# EAGLE library part NL27WZ125 (library IC)
On-Semi NL27WZ125 Dual Tri-State Buffer,, 1.65V - 5.5V operation
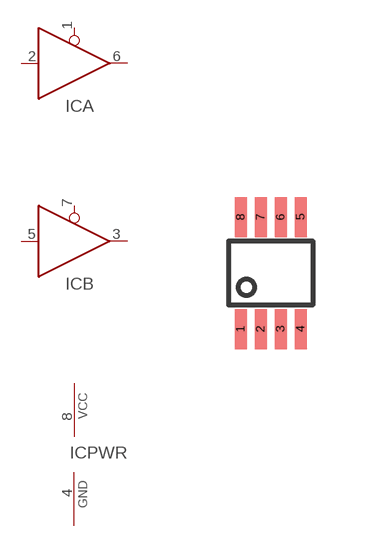
[diagram p144: symbol with the pads of US8; footprint US8]

Designator prefix IC; gates A=74125 B=74125 PWR=PWR-VCC-GND

## NL27WZ125US  [US8]
1  A:EN  in
2  A:I  in
3  B:O  out
4  PWR:GND  pwr
5  B:I  in
6  A:O  out
7  B:EN  in
8  PWR:VCC  pwr

## Footprint US8 (pad centres in mm)
smd 0.3 x 1: 1 -0.7,-1.4; 2 -0.2,-1.4; 3 0.3,-1.4; 4 0.8,-1.4; 5 0.8,1.4; 6 0.3,1.4; 7 -0.2,1.4; 8 -0.7,1.4